# Altium footprint library Arduino UNO.PcbLib: 28 footprints (part 2 of 2)
Each footprint in its own frame and in the unit in brackets; x right, y up, seen from the top. Pads: shape width x height; smd on the part's side, far side on the other; paste and mask are expansions set on the pad; w line width, h text height; cw(c..) or ccw(c..) is an arc to the next point about the centre after c.
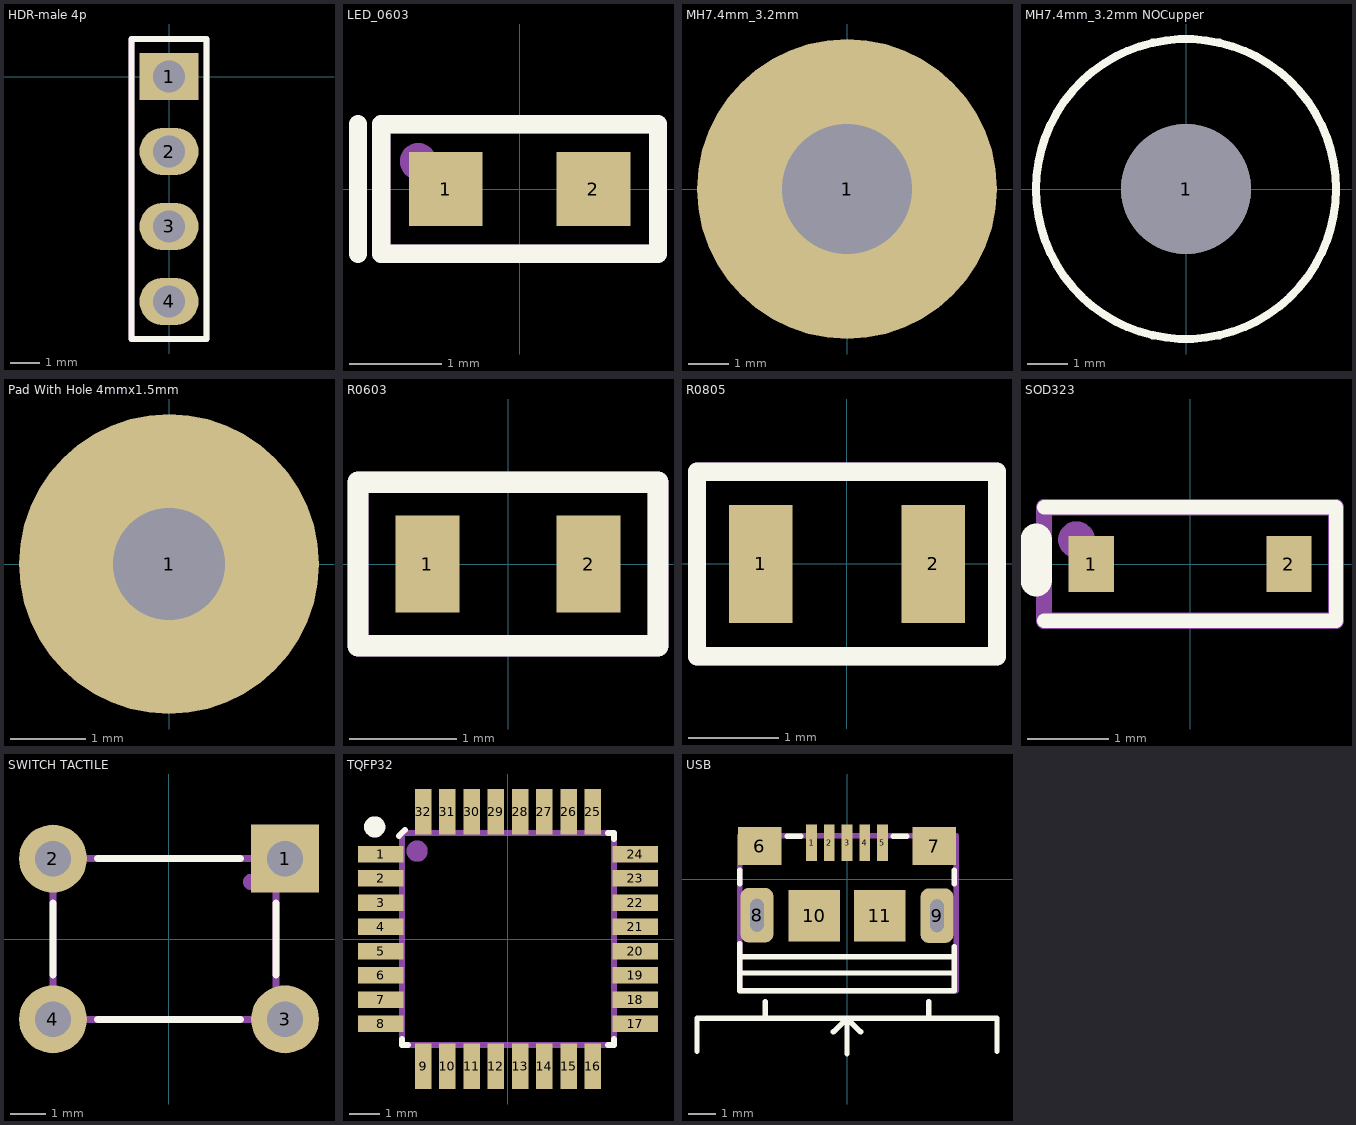
[diagram p1: the footprints below, top view; thin cyan lines are the x and y axes]

## HDR-male 4p [mm]
height 1
pads (4):
  rect 2x1.6 hole 1.1: 1(0,0)
  oval 2x1.6 hole 1.1: 2(0,-2.54) 3(0,-5.08) 4(0,-7.62)
Top Overlay:
  lines w0.2: -1.27,-8.89 -1.27,1.27 1.27,1.27 1.27,-8.89 -1.27,-8.89
Mechanical 29:
  lines w0.2: -1.27,-8.89 1.27,-8.89 1.27,1.27 -1.27,1.27 -1.27,-8.89
  lines w0.6: 0.049,0 ccw(c-0.02,0) 0.049,0
  text "'.Designator'" at -0.762,-1.778 h1.5
3D body "HDR_1x4_White.stp": height 8.39, standoff -3.11, extent -1.205,-8.7 1.205,1.06

## IC DIP SOCKET 28POS [mm]
3D body "dil_socket.stp": height 4.2, standoff -3.17, extent -0.889,-34.611 9.211,0.889

## LED_0603 [mm]
pads (2):
  rect 0.8x0.8 smd: 1(-0.8,0) 2(0.8,0)
Top Overlay:
  lines w0.2: -1.75,-0.7 -1.75,0.7 ; -1.5,-0.7 1.5,-0.7 1.5,0.7 -1.5,0.7 -1.5,-0.7
Mechanical 29:
  circle w0.254: c-1.1,0.3 r0.071
  lines w0.2: -1.5,-0.7 1.5,-0.7 1.5,0.7 -1.5,0.7 -1.5,-0.7
  text "'.Designator'" at -0.635,-0.254 h0.5
3D body "User Library-LED SMD 0603 super red.step": height 0.65, standoff 0, extent -0.85,-0.4 0.85,0.4

## MH7.4mm_3.2mm [mm]
pads (1):
  round 7.4 hole 3.2: 1(0,0)

## MH7.4mm_3.2mm NOCupper [mm]
pads (1):
  round 3.2 hole 3.2 unplated: 1(0,0)
Top Overlay:
  circle w0.2: c0,0 r3.7

## Pad With Hole 4mmx1.5mm [mm]
pads (1):
  round 4 hole 1.5: 1(0,0)

## R0603 [mm]
pads (2):
  rect 0.6x0.9 smd: 1(-0.75,0) 2(0.75,0)
Top Overlay:
  lines w0.2: -1.397,-0.762 1.397,-0.762 1.397,0.762 -1.397,0.762 -1.397,-0.762
Mechanical 29:
  lines w0.2: -1.397,-0.762 1.397,-0.762 1.397,0.762 -1.397,0.762 -1.397,-0.762
  text "'.Designator'" at -0.635,-0.381 h0.8
3D body "R0603.step": height 0.85, standoff 0.01, extent -0.77,-0.4 0.83,0.4

## R0805 [mm]
pads (2):
  rect 0.7x1.3 smd: 1(-0.95,0) 2(0.95,0)
Top Overlay:
  lines w0.2: -1.651,-1.016 -1.651,1.016 1.651,1.016 1.651,-1.016 -1.651,-1.016
Mechanical 29:
  lines w0.2: -1.651,-1.016 -1.651,1.016 1.651,1.016 1.651,-1.016 -1.651,-1.016
  text "'.Designator'" at -1.143,-0.381 h0.8
3D body: height 0.6, standoff -0.6, extent 0.508,-0.254 0.508,-0.254
3D body "User Library-Chip Resistor.STEP": height 0.61, standoff 0.01, extent -1,-0.6 1,0.6

## SOD323 [mil]
pads (2):
  rect 22x27 smd: 1(-48,0) 2(48,0)
Top Overlay:
  lines w7: -70.87,-27.56 70.87,-27.56 70.87,27.56 -70.87,27.56
  lines w15.75: -74.8,-7.87 -74.8,11.81
Mechanical 29:
  circle w10: c-55.12,11.81 r3.94
  lines w7.87: -70.87,-27.56 -70.87,27.56 70.87,27.56 70.87,-27.56 -70.87,-27.56
  text "'.Designator'" at -35,-15 h31.5
3D body "User Library-SOD323.step": height 35.43, standoff -3.54, extent -49.21,-23.62 49.21,25.59

## SWITCH TACTILE [mm]
pads (4):
  rect 1.9x1.9 hole 1: 1(3.25,2.25)
  round 1.9 hole 1: 2(-3.25,2.25) 3(3.25,-2.25) 4(-3.25,-2.25)
Top Overlay:
  lines w0.2: -3.25,-1 -3.25,1 ; -2,-2.25 2,-2.25 ; -2,2.25 2,2.25 ; 3,-1 3,1
Mechanical 29:
  circle w0.254: c2.3,1.6 r0.1
  lines w0.2: -3.25,-2.25 -3.25,2.25 -1.9,2.25 3,2.25 3,-2.25 -3.25,-2.25
  text "'.Designator'" at -1.651,-0.762 h1.3
3D body "User Library-FSM4JLH(1825910-5).step": height 5.01, standoff -3.5, extent -3.898,-2.995 3.9,2.995

## TQFP32 [mm]
pads (32):
  rect 1.5x0.55 smd mask+0.06: 1(-4.2,2.8) 2(-4.2,2) 3(-4.2,1.2) 4(-4.2,0.4) 5(-4.2,-0.4) 6(-4.2,-1.2) 7(-4.2,-2) 8(-4.2,-2.8) 17(4.2,-2.8) 18(4.2,-2) 19(4.2,-1.2) 20(4.2,-0.4) 21(4.2,0.4) 22(4.2,1.2) 23(4.2,2) 24(4.2,2.8)
  rect 0.55x1.5 smd mask+0.06: 9(-2.8,-4.2) 10(-2,-4.2) 11(-1.2,-4.2) 12(-0.4,-4.2) 13(0.4,-4.2) 14(1.2,-4.2) 15(2,-4.2) 16(2.8,-4.2) 25(2.8,4.2) 26(2,4.2) 27(1.2,4.2) 28(0.4,4.2) 29(-0.4,4.2) 30(-1.2,4.2) 31(-2,4.2) 32(-2.8,4.2)
Top Overlay:
  circle w0.5: c-4.4,3.7 r0.1
  lines w0.2: -3.6,3.4 -3.4,3.6 ; -3.5,-3.3 -3.5,-3.5 -3.3,-3.5 ; 3.3,-3.5 3.5,-3.5 3.5,-3.3 ; 3.3,3.5 3.5,3.5 3.5,3.3
Mechanical 29:
  circle w0.5: c-3,2.9 r0.1
  lines w0.2: -3.5,-3.5 -3.5,3.5 3.5,3.5 3.5,-3.5 -3.3,-3.5
  text "'.Designator'" at -1.905,-0.762 h1.6
3D body "User Library-TQFP32-4.STEP": height 1.13, standoff -0.02, extent -4.487,-4.512 4.537,4.512

## USB [mm]
pads (11):
  rect 0.4x1.35 smd paste+0 mask+0.05: 1(-1.3,1.338) 2(-0.65,1.338) 3(0,1.338) 4(0.65,1.338) 5(1.3,1.338)
  rect 1.6x1.4 smd paste+0 mask+0.05: 6(-3.2,1.218) 7(3.2,1.218)
  rrect50% 1.2x2 hole 1.2 slot 0.5 at 0 deg mask+0.05: 8(-3.3,-1.319) 9(3.3,-1.338)
  rect 1.9x1.9 smd paste+0 mask+0.05: 10(-1.2,-1.338) 11(1.2,-1.338)
Top Overlay:
  lines w0.2: -5.5,-6.3 -5.5,-5.1 5.5,-5.1 5.5,-6.3 ; -3.931,-0.162 -3.931,0.337 ; -3.928,-3.438 3.928,-3.438 ; -3.928,-2.738 -3.928,-4.089 3.925,-4.089 3.928,-4.086 3.928,-2.738 ; -3.928,-2.362 -3.928,-2.838 3.928,-2.838 3.928,-2.466 ; -3,-5.1 -3,-4.5 ; -2.2,1.571 -1.7,1.571 ; -0.5,-5.6 0,-5.1 ; 0,-6.4 0,-5.1 ; 0.5,-5.6 0,-5.1 ; 1.7,1.575 2.2,1.575 ; 3,-5.1 3,-4.5 ; 3.926,-0.162 3.926,0.337
Mechanical 29:
  lines w0.2: -3.925,-4.089 -3.925,1.6 4,1.6 4,-4.089 -3.925,-4.089
  text "'.Designator'" at -1.397,-2.159 h1.8
3D body "10118193-0001lfc.stp": height 2.87, standoff -0.73, extent -3.931,-4.089 3.928,1.575